# EAGLE library part CURRENT_SENSOR:NT-X(F.W.BELL) (library QuantumOptics)
Current Sensor, NT-5 -15 -25, F.W.Bell, 5/15/25A, bipolar, ±15V supply. http://www.sypris.com/filemanager/library/NT-Datasheet.pdf
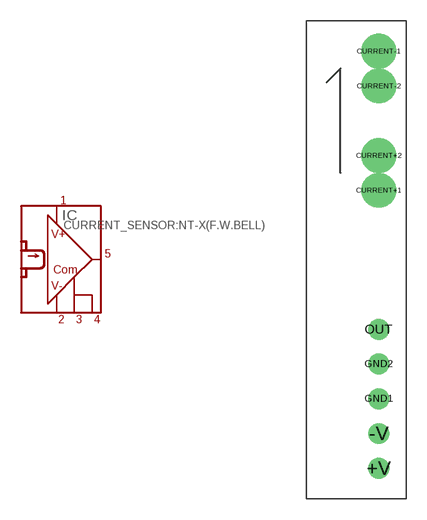
[diagram p130: symbol with the pads of CURRENT_SENSOR:NT-5/15/25(F.W.BELL); footprint CURRENT_SENSOR:NT-5/15/25(F.W.BELL)]

Designator prefix IC

## CURRENT_SENSOR:NT-X(F.W.BELL)-NT5/15/25  [CURRENT_SENSOR:NT-5/15/25(F.W.BELL)]
+V  +VS
-V  -VS
CURRENT+1  CURRENT+1
CURRENT+2  CURRENT+2
CURRENT-1  CURRENT-1
CURRENT-2  CURRENT-2
GND1  COM1
GND2  COM2
OUT  OUT  out

## Footprint CURRENT_SENSOR:NT-5/15/25(F.W.BELL) (pad centres in mm)
Current Sensor, NT-5 -15 -25, F.W.Bell, 5/15/25A, bipolar, ±15V supply. http://www.sypris.com/filemanager/library/NT-Datasheet.pdf
drill 0.711 pad 1.524: +V 0,-10.16; -V 0,-7.62; GND1 0,-5.08; GND2 0,-2.54; OUT 0,0
drill 1.067 pad 2.54: CURRENT+1 0,10.16; CURRENT+2 0,12.7; CURRENT-1 0,20.32; CURRENT-2 0,17.78